# Altium schematic symbol library CD4051BE.SCHLIB: 1 symbol
Pins are listed as number, name and electrical type; pins without a type are passive.

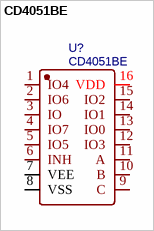
[diagram p0: symbol CD4051BE]

## CD4051BE
designator U?
BOM_Manufacturer: TI; spicePre: X; BOM_Supplier: LCSC; BOM_Manufacturer Part: CD4051BE; image: //image.lceda.cn/szlcsc/C5200.jpg; BOM_Supplier Part: C5200; spiceSymbolName: CD4051BE
footprint DIP-16_L20.0-W6.4-P2.54-LS7.6-BL
pins: 1 IO4, 2 IO6, 3 IO, 4 IO7, 5 IO5, 6 INH, 7 VEE, 8 VSS, 9 C, 10 B, 11 A, 12 IO3, 13 IO0, 14 IO1, 15 IO2, 16 VDD